# Altium schematic symbol library Transformers.SchLib: 17 symbols
Pins are listed as number, name and electrical type; pins without a type are passive.

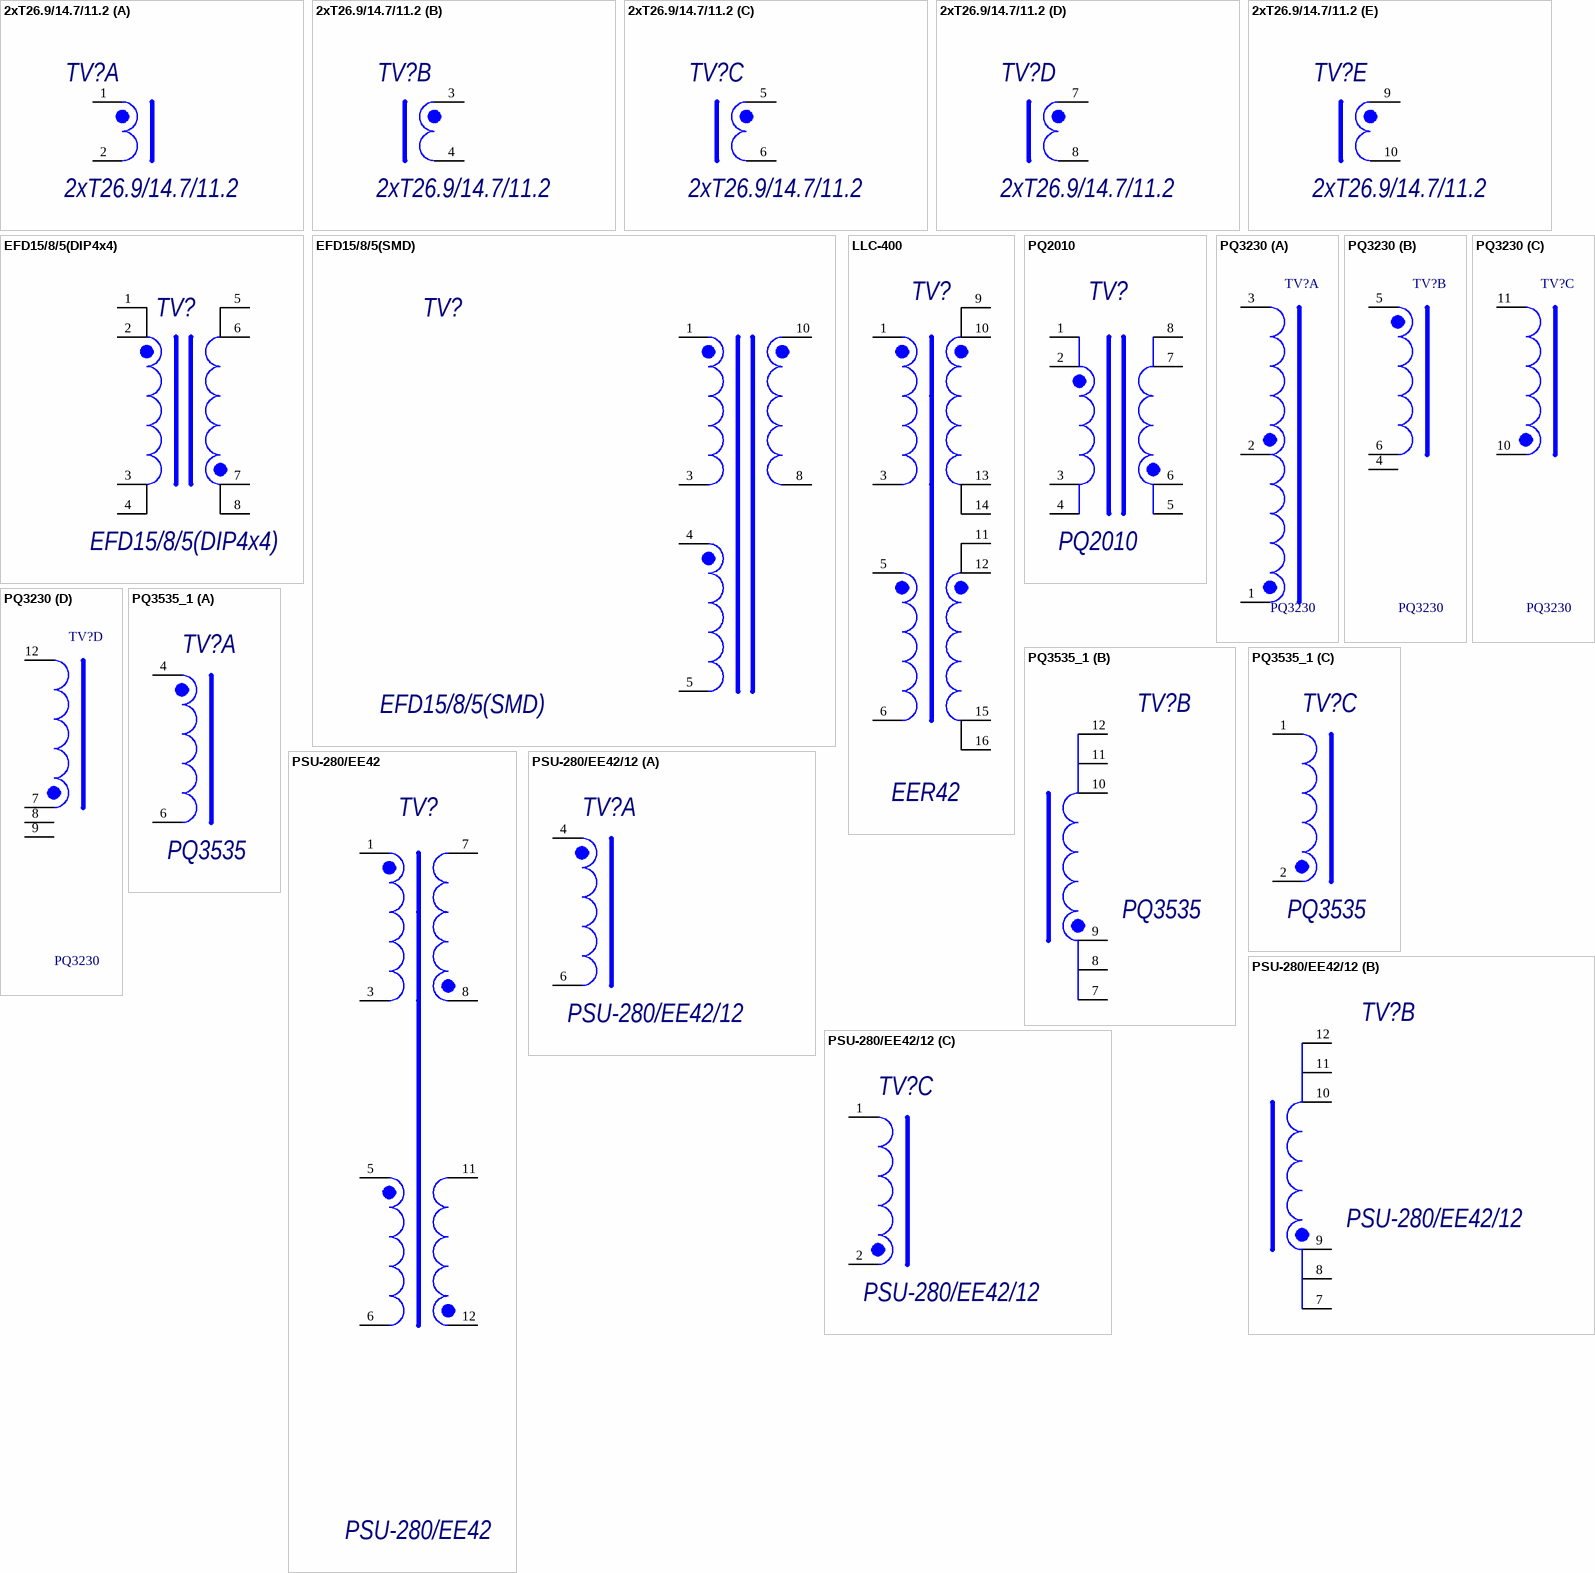
[diagram p0: symbols 2xT26.9/14.7/11.2 to PSU-280/EE42/12]

## 2xT26.9/14.7/11.2
designator TV?
Трансформатор для board_supply_440v; ComponentDescription: 2xT26.9/14.7/11.2
footprint 2xT-26.9/14.7/11.2
part A pins: 1, 2
part B pins: 3, 4
part C pins: 5, 6
part D pins: 7, 8
part E pins: 9, 10

## EFD15/8/5(DIP4x4)
designator TV?
Трансформатор для источника питания; ComponentDescription: =ComponentType+' '+Package; ComponentType: Трансформатор для источника питания UPS1000
footprint EFD15/8/5/DIP4x4 (Каркас BH-EFD15-1-8R (PHL))
pins: 1, 2, 3, 4, 5, 6, 7, 8

## EFD15/8/5(SMD)
designator TV?
Трансформатор для источника питания; ComponentDescription: =ComponentType+' '+Package; ComponentType: Трансформатор для источника питания UPS1000
footprint EFD15/8/5 (Каркас BH-EFD15-1-10S (PHL))
pins: 1, 3, 4, 5, 8, 10
2 alternate drawings of the same symbol

## LLC-400
designator TV?, comment EER42
Трансформатор LLC-400; ComponentDescription: =ComponentType+' '+Package; ComponentType: Трансформатор импульсный, сердечник
footprint EER42
pins: 1, 3, 5, 6, 9, 10, 11, 12, 13, 14, 15, 16

## PQ2010
designator TV?
Трансформатор импульсный; ComponentDescription: =ComponentType+' '+Package; ComponentType: Трансформатор импульсный
footprint PQ2010
pins: 1, 2, 3, 4, 5, 6, 7, 8
2 alternate drawings of the same symbol

## PQ3230
designator TV?
Трансформатор MULTICHARGER; ComponentDescription: PQ3230
footprint PQ3230
part A pins: 1, 2, 3
part B pins: 4, 5, 6
part C pins: 10, 11
part D pins: 7, 8, 9, 12

## PQ3535_1
designator TV?, comment PQ3535
Трансформатор FLYBACK 150WT; ComponentDescription: PQ3535
footprint PQ3535_VAR1
part A pins: 4, 6
part B pins: 7, 8, 9, 10, 11, 12
part C pins: 1, 2

## PSU-280/EE42
designator TV?
Трансформатор PSU-280/EE42; ComponentDescription: =ComponentType+' '+Package; ComponentType: Трансформатор импульсный, сердечник
footprint EE42
pins: 1, 3, 5, 6, 7, 8, 11, 12

## PSU-280/EE42/12
designator TV?
Трансформатор PSU-280/EE42/12 3 обмотки; ComponentDescription: PSU-280/EE42/12
footprint EE42
part A pins: 4, 6
part B pins: 7, 8, 9, 10, 11, 12
part C pins: 1, 2

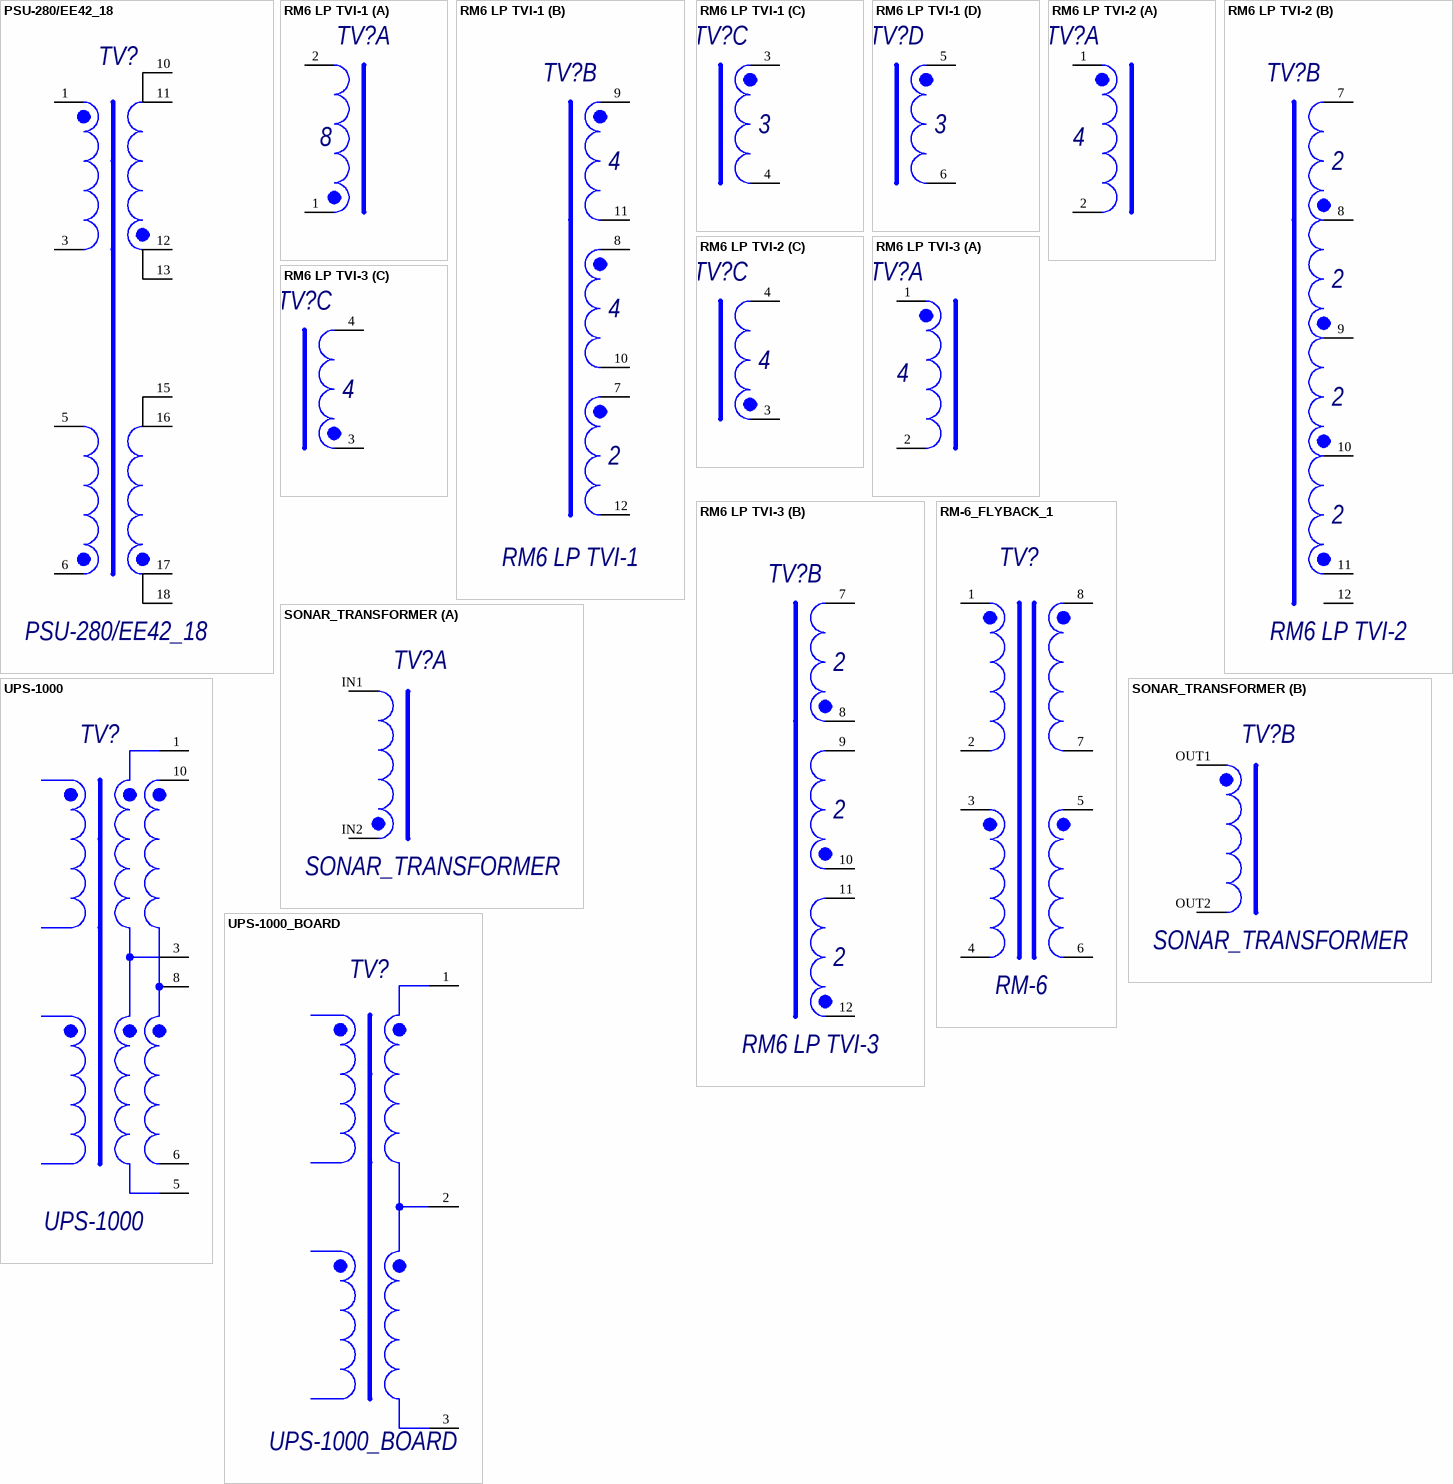
[diagram p1: symbols PSU-280/EE42_18 to UPS-1000_BOARD]

## PSU-280/EE42_18
designator TV?
Трансформатор PSU-280/EE42; ComponentDescription: PSU-280/EE42_18
footprint EE42-18
pins: 1, 3, 5, 6, 10, 11, 12, 13, 15, 16, 17, 18

## RM6 LP TVI-1
designator TV?
Трансформатор PSU-20; ComponentDescription: RM6 LP TVI-1
footprint RM6 LP TVI-1-24V
footprint RM6 LP TVI-1-24V - FLIPPED
part A pins: 1, 2
part B pins: 7, 8, 9, 10, 11, 12
part C pins: 3, 4
part D pins: 5, 6
1 alternate drawing of the same symbol

## RM6 LP TVI-2
designator TV?
Трансформатор PSU-20 4 канала; ComponentDescription: RM6 LP TVI-2
footprint RM6 LP TVI-1-24V
footprint RM6 LP TVI-1-24V - FLIPPED
part A pins: 1, 2
part B pins: 7, 8, 9, 10, 11, 12
part C pins: 3, 4

## RM6 LP TVI-3
designator TV?
Трансформатор PSU-20 3 канала; ComponentDescription: RM6 LP TVI-3
footprint RM6 LP TVI-1-24V
footprint RM6 LP TVI-1-24V - FLIPPED
part A pins: 1, 2
part B pins: 7, 8, 9, 10, 11, 12
part C pins: 3, 4

## RM-6_FLYBACK_1
designator TV?, comment RM-6
Трансформатор для источника питания UPS1000; ComponentDescription: =ComponentType+' '+Package; ComponentType: Трансформатор для источника питания UPS1000
footprint RM6
pins: 1, 2, 3, 4, 5, 6, 7, 8

## SONAR_TRANSFORMER
designator TV?
Трансформатор SONAR_TRANSFORMER; ComponentDescription: SONAR_TRANSFORMER
footprint Sonar transformer
part A pins: IN1, IN2
part B pins: OUT1, OUT2

## UPS-1000
designator TV?
Трансформатор UPS-1000; ComponentDescription: =ComponentType+' '+Package; ComponentType: Трансформатор импульсный, сердечник
footprint ER51
pins: 1, 3, 5, 6, 8, 10

## UPS-1000_BOARD
designator TV?
Трансформатор UPS-1000 с переходной платой; ComponentDescription: =ComponentType+' '+Package; ComponentType: Трансформатор UPS-1000 с переходной платой
footprint ER51_BOARD
pins: 1, 2, 3